# Altium footprint library battery (2).PCBLIB: 43 footprints (part 1 of 3)
Each footprint in its own frame and in the unit in brackets; x right, y up, seen from the top. Pads: shape width x height; smd on the part's side, far side on the other; paste and mask are expansions set on the pad; w line width, h text height; cw(c..) or ccw(c..) is an arc to the next point about the centre after c.
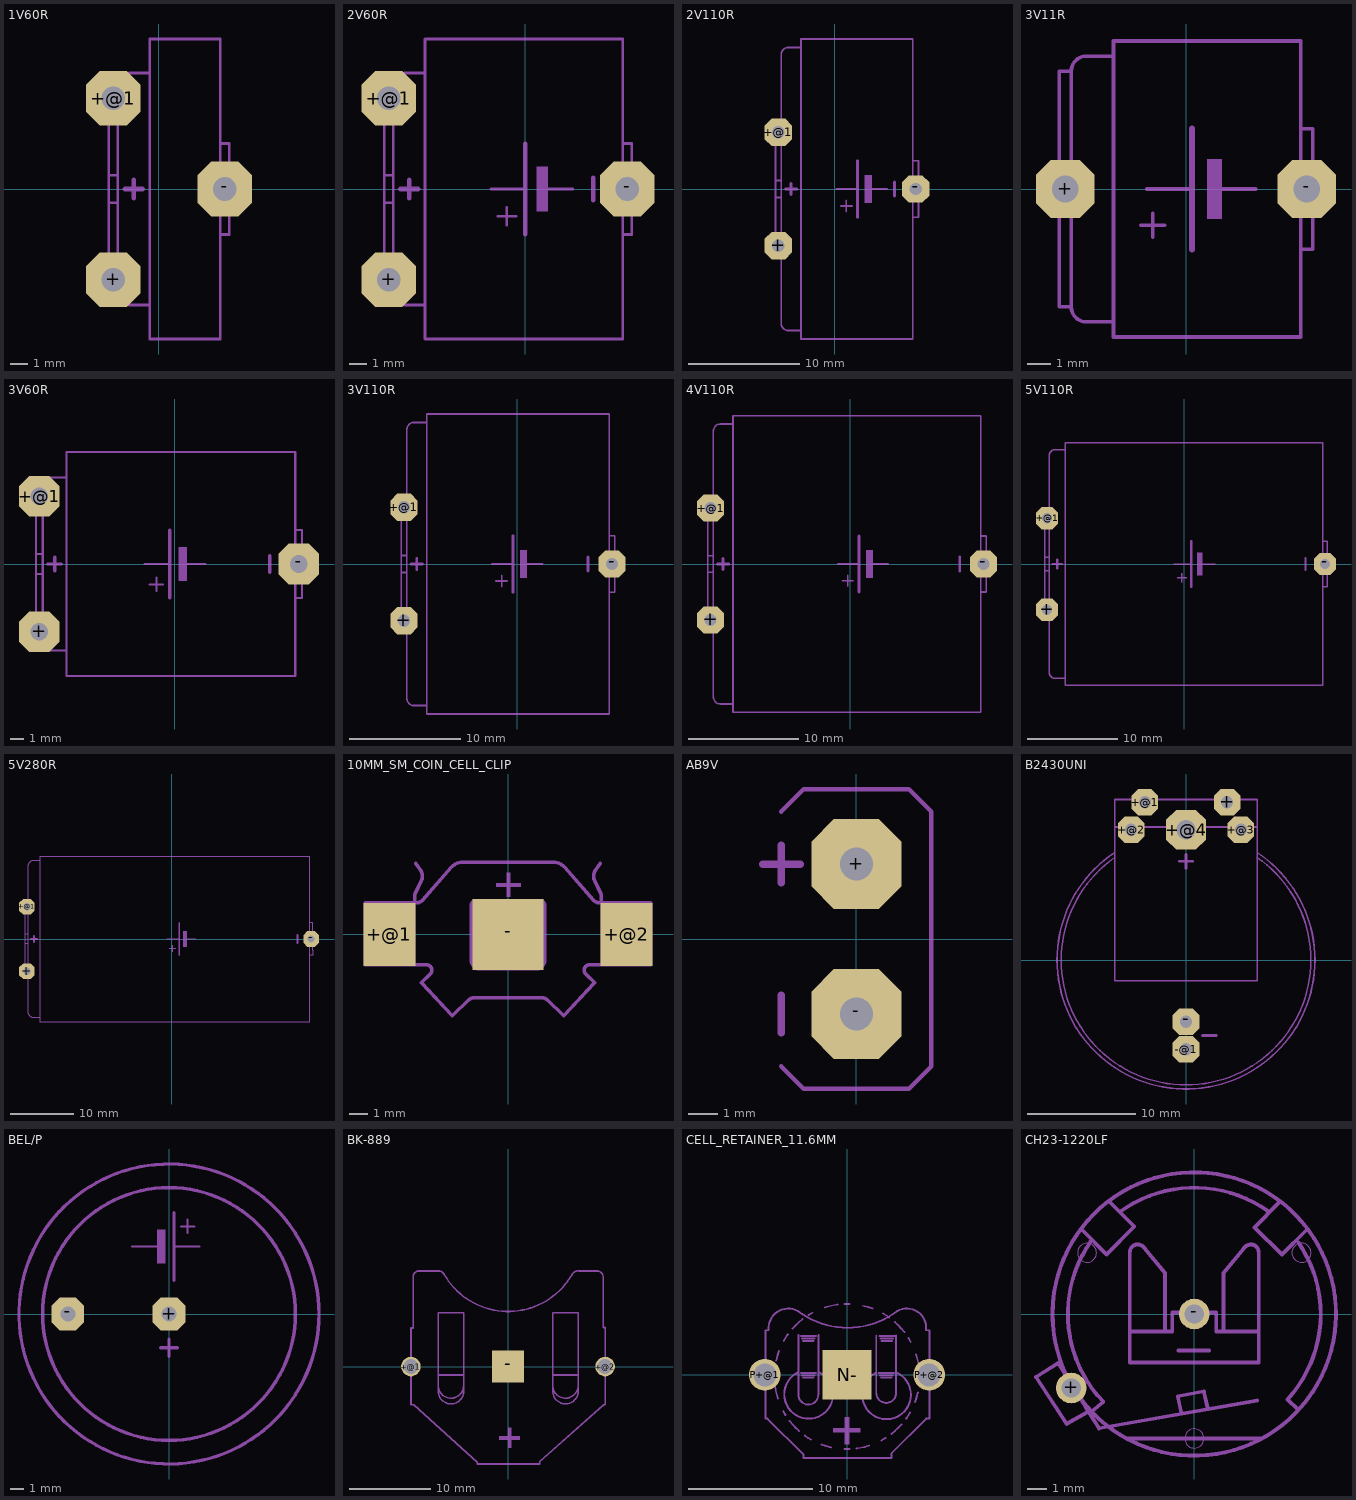
[diagram p0: the footprints below, top view; thin cyan lines are the x and y axes]

## 1V60R [mil]
pads (3):
  oct 120.06x120.06 hole 52: +(-100,-200) +@1(-100,200) -(145,0)
Mechanical 2:
  lines w6: -110,-130 -110,-30 ; -110,130 -110,30 ; -90,-130 -90,-30 ; -90,130 -90,30 ; -55,-255 -20,-255 ; -55,255 -20,255 ; 135,-70 135,-100 ; 135,70 135,100 ; 155,-70 155,-100 135,-100 ; 155,70 155,100 135,100 ; -110,-30 -90,-30 ; -110,-30 -110,30 ; -110,30 -90,30 ; -90,-30 -90,30 ; -20,-255 -20,255 ; -20,-255 -20,-330 135,-330 135,-100 ; -20,255 -20,330 135,330 135,100
  lines w10: -75,0 -35,0 ; -55,-20 -55,20
Mechanical 18:
  lines w6: -110,-130 -110,-230 -90,-230 ; -110,130 -110,230 -90,230 ; -90,-130 -90,-230 ; -90,130 -90,230 ; -55,-255 -65,-255 cw(c-65,-230) -90,-230 ; -55,255 -65,255 ccw(c-65,230) -90,230 ; 135,-70 135,-30 ; 135,70 135,30 ; 155,-70 155,-30 ; 155,70 155,30 ; 135,-30 155,-30 ; 135,-30 135,30 ; 135,30 155,30 ; 155,-30 155,30
  lines w10: 100,-25 100,25

## 2V60R [mil]
pads (3):
  oct 120.06x120.06 hole 52: +(-300,-200) +@1(-300,200) -(225,0)
Mechanical 2:
  rectangle: 25,-50 50,50
  lines w6: -310,-130 -310,-30 ; -310,130 -310,30 ; -290,-130 -290,-30 ; -290,130 -290,30 ; -255,-255 -220,-255 ; -255,255 -220,255 ; -75,0 0,0 ; -60,-60 -20,-60 ; -40,-80 -40,-40 ; 50,0 105,0 ; 215,-70 215,-100 ; 215,70 215,100 ; 235,-70 235,-100 215,-100 ; 235,70 235,100 215,100 ; -310,-30 -290,-30 ; -310,-30 -310,30 ; -310,30 -290,30 ; -290,-30 -290,30 ; -220,-255 -220,255 ; -220,-255 -220,-330 215,-330 215,-100 ; -220,255 -220,330 215,330 215,100
  lines w10: -275,0 -235,0 ; -255,-20 -255,20 ; 0,-100 0,0 0,100 ; 150,-25 150,25
Mechanical 18:
  lines w6: -310,-130 -310,-230 -290,-230 ; -310,130 -310,230 -290,230 ; -290,-130 -290,-230 ; -290,130 -290,230 ; -255,-255 -265,-255 cw(c-265,-230) -290,-230 ; -255,255 -265,255 ccw(c-265,230) -290,230 ; 215,-70 215,-30 ; 215,70 215,30 ; 235,-70 235,-30 ; 235,70 235,30 ; 215,-30 235,-30 ; 215,-30 215,30 ; 215,30 235,30 ; 235,-30 235,30

## 2V110R [mil]
pads (3):
  oct 96.82x96.82 hole 44: +(-200,-200) +@1(-200,200) -(285,0)
Mechanical 2:
  rectangle: 105,-50 130,50
  lines w6: -210,-135 -210,-30 ; -210,135 -210,30 ; -190,-265 -190,-475 ccw(c-165,-475) -165,-500 -120,-500 ; -190,-135 -190,-30 ; -190,135 -190,30 ; -190,265 -190,475 cw(c-165,475) -165,500 -120,500 ; 5,0 80,0 ; 20,-60 60,-60 ; 40,-80 40,-40 ; 130,0 185,0 ; 275,-70 275,-100 ; 275,70 275,100 ; 295,-70 295,-100 275,-100 ; 295,70 295,100 275,100 ; -210,-30 -190,-30 ; -210,-30 -210,30 ; -210,30 -190,30 ; -190,-30 -190,30 ; -120,-500 -120,500 ; -120,-500 -120,-530 275,-530 275,-100 ; -120,500 -120,530 275,530 275,100
  lines w10: -175,0 -135,0 ; -155,-20 -155,20 ; 80,-100 80,0 80,100 ; 210,-25 210,25
Mechanical 18:
  lines w6: -210,-135 -210,-230 -190,-230 ; -210,135 -210,230 -190,230 ; -190,-265 -190,-230 ; -190,-135 -190,-230 ; -190,135 -190,230 ; -190,265 -190,230 ; 275,-70 275,-30 ; 275,70 275,30 ; 295,-70 295,-30 ; 295,70 295,30 ; 275,-30 295,-30 ; 275,-30 275,30 ; 275,30 295,30 ; 295,-30 295,30

## 3V11R [mil]
pads (2):
  oct 96.82x96.82 hole 44: +(-200,0) -(200,0)
Mechanical 2:
  rectangle: 35,-50 60,50
  lines w6: -210,-65 -210,-195 -190,-195 ; -210,65 -210,195 -190,195 ; -190,-65 -190,-195 ; -190,65 -190,195 ; -75,-60 -35,-60 ; -65,0 10,0 ; -55,-80 -55,-40 ; 60,0 115,0 ; 190,-65 190,-100 ; 190,65 190,100 ; 210,-65 210,-100 190,-100 ; 210,65 210,100 190,100 ; -190,-195 ccw(c-165,-195) -165,-220 -120,-220 ; -190,195 cw(c-165,195) -165,220 -120,220 ; -120,-220 -120,220 ; -120,-220 -120,-245 190,-245 190,-100 ; -120,220 -120,245 190,245 190,100
  lines w10: 10,-100 10,0 10,100
Mechanical 18:
  lines w6: -210,-65 -210,-30 ; -210,65 -210,30 ; -190,-65 -190,-30 ; -190,65 -190,30 ; 190,-65 190,-30 ; 190,65 190,30 ; 210,-65 210,-30 ; 210,65 210,30 ; -210,-30 -190,-30 ; -210,-30 -210,30 ; -210,30 -190,30 ; -190,-30 -190,30 ; 190,-30 210,-30 ; 190,-30 190,30 ; 190,30 210,30 ; 210,-30 210,30

## 3V60R [mil]
pads (3):
  oct 120.06x120.06 hole 52: +(-400,-200) +@1(-400,200) -(365,0)
Mechanical 2:
  rectangle: 10,-50 35,50
  lines w6: -410,-130 -410,-30 ; -410,130 -410,30 ; -390,-130 -390,-30 ; -390,130 -390,30 ; -355,-255 -320,-255 ; -355,255 -320,255 ; -90,0 -15,0 ; -75,-60 -35,-60 ; -55,-80 -55,-40 ; 35,0 90,0 ; 355,-70 355,-100 ; 355,70 355,100 ; 375,-70 375,-100 355,-100 ; 375,70 375,100 355,100 ; -410,-30 -390,-30 ; -410,-30 -410,30 ; -410,30 -390,30 ; -390,-30 -390,30 ; -320,-255 -320,255 ; -320,-255 -320,-330 355,-330 355,-100 ; -320,255 -320,330 355,330 355,100
  lines w10: -375,0 -335,0 ; -355,-20 -355,20 ; -15,-100 -15,0 -15,100 ; 280,-25 280,25
Mechanical 18:
  lines w6: -410,-130 -410,-230 -390,-230 ; -410,130 -410,230 -390,230 ; -390,-130 -390,-230 ; -390,130 -390,230 ; -355,-255 -365,-255 cw(c-365,-230) -390,-230 ; -355,255 -365,255 ccw(c-365,230) -390,230 ; 355,-70 355,-30 ; 355,70 355,30 ; 375,-70 375,-30 ; 375,70 375,30 ; 355,-30 375,-30 ; 355,-30 355,30 ; 355,30 375,30 ; 375,-30 375,30

## 3V110R [mil]
pads (3):
  oct 96.82x96.82 hole 44: +(-400,-200) +@1(-400,200) -(335,0)
Mechanical 2:
  rectangle: 10,-50 35,50
  lines w6: -410,-135 -410,-30 ; -410,135 -410,30 ; -390,-265 -390,-475 ccw(c-365,-475) -365,-500 -320,-500 ; -390,-135 -390,-30 ; -390,135 -390,30 ; -390,265 -390,475 cw(c-365,475) -365,500 -320,500 ; -90,0 -15,0 ; -75,-60 -35,-60 ; -55,-80 -55,-40 ; 35,0 90,0 ; 325,-70 325,-100 ; 325,70 325,100 ; 345,-70 345,-100 325,-100 ; 345,70 345,100 325,100 ; -410,-30 -390,-30 ; -410,-30 -410,30 ; -410,30 -390,30 ; -390,-30 -390,30 ; -320,-500 -320,500 ; -320,-500 -320,-530 325,-530 325,-100 ; -320,500 -320,530 325,530 325,100
  lines w10: -375,0 -335,0 ; -355,-20 -355,20 ; -15,-100 -15,0 -15,100 ; 250,-25 250,25
Mechanical 18:
  lines w6: -410,-135 -410,-230 -390,-230 ; -410,135 -410,230 -390,230 ; -390,-265 -390,-230 ; -390,-135 -390,-230 ; -390,135 -390,230 ; -390,265 -390,230 ; 325,-70 325,-30 ; 325,70 325,30 ; 345,-70 345,-30 ; 345,70 345,30 ; 325,-30 345,-30 ; 325,-30 325,30 ; 325,30 345,30 ; 345,-30 345,30

## 4V110R [mil]
pads (3):
  oct 96.82x96.82 hole 44: +(-500,-200) +@1(-500,200) -(475,0)
Mechanical 2:
  rectangle: 55,-50 80,50
  lines w6: -510,-135 -510,-30 ; -510,135 -510,30 ; -490,-265 -490,-475 ccw(c-465,-475) -465,-500 -420,-500 ; -490,-135 -490,-30 ; -490,135 -490,30 ; -490,265 -490,475 cw(c-465,475) -465,500 -420,500 ; -45,0 30,0 ; -30,-60 10,-60 ; -10,-80 -10,-40 ; 80,0 135,0 ; 465,-70 465,-100 ; 465,70 465,100 ; 485,-70 485,-100 465,-100 ; 485,70 485,100 465,100 ; -510,-30 -490,-30 ; -510,-30 -510,30 ; -510,30 -490,30 ; -490,-30 -490,30 ; -420,-500 -420,500 ; -420,-500 -420,-530 465,-530 465,-100 ; -420,500 -420,530 465,530 465,100
  lines w10: -475,0 -435,0 ; -455,-20 -455,20 ; 30,-100 30,0 30,100 ; 390,-25 390,25
Mechanical 18:
  lines w6: -510,-135 -510,-230 -490,-230 ; -510,135 -510,230 -490,230 ; -490,-265 -490,-230 ; -490,-135 -490,-230 ; -490,135 -490,230 ; -490,265 -490,230 ; 465,-70 465,-30 ; 465,70 465,30 ; 485,-70 485,-30 ; 485,70 485,30 ; 465,-30 485,-30 ; 465,-30 465,30 ; 465,30 485,30 ; 485,-30 485,30

## 5V110R [mil]
pads (3):
  oct 96.82x96.82 hole 44: +(-600,-200) +@1(-600,200) -(615,0)
Mechanical 2:
  rectangle: 55,-50 80,50
  lines w6: -610,-135 -610,-30 ; -610,135 -610,30 ; -590,-265 -590,-475 ccw(c-565,-475) -565,-500 -520,-500 ; -590,-135 -590,-30 ; -590,135 -590,30 ; -590,265 -590,475 cw(c-565,475) -565,500 -520,500 ; -45,0 30,0 ; -30,-60 10,-60 ; -10,-80 -10,-40 ; 80,0 135,0 ; 605,-70 605,-100 ; 605,70 605,100 ; 625,-70 625,-100 605,-100 ; 625,70 625,100 605,100 ; -610,-30 -590,-30 ; -610,-30 -610,30 ; -610,30 -590,30 ; -590,-30 -590,30 ; -520,-500 -520,500 ; -520,-500 -520,-530 605,-530 605,-100 ; -520,500 -520,530 605,530 605,100
  lines w10: -575,0 -535,0 ; -555,-20 -555,20 ; 30,-100 30,0 30,100 ; 530,-25 530,25
Mechanical 18:
  lines w6: -610,-135 -610,-230 -590,-230 ; -610,135 -610,230 -590,230 ; -590,-265 -590,-230 ; -590,-135 -590,-230 ; -590,135 -590,230 ; -590,265 -590,230 ; 605,-70 605,-30 ; 605,70 605,30 ; 625,-70 625,-30 ; 625,70 625,30 ; 605,-30 625,-30 ; 605,-30 605,30 ; 605,30 625,30 ; 625,-30 625,30

## 5V280R [mil]
pads (3):
  oct 96.82x96.82 hole 44: +(-900,-200) +@1(-900,200) -(865,0)
Mechanical 2:
  rectangle: 70,-50 95,50
  lines w6: -910,-135 -910,-30 ; -910,135 -910,30 ; -890,-265 -890,-460 ccw(c-865,-460) -865,-485 -820,-485 ; -890,-135 -890,-30 ; -890,135 -890,30 ; -890,265 -890,460 cw(c-865,460) -865,485 -820,485 ; -30,0 45,0 ; -15,-60 25,-60 ; 5,-80 5,-40 ; 95,0 150,0 ; 855,-70 855,-100 ; 855,70 855,100 ; 875,-70 875,-100 855,-100 ; 875,70 875,100 855,100 ; -910,-30 -890,-30 ; -910,-30 -910,30 ; -910,30 -890,30 ; -890,-30 -890,30 ; -820,-485 -820,485 ; -820,-485 -820,-515 855,-515 855,-100 ; -820,485 -820,515 855,515 855,100
  lines w10: -875,0 -835,0 ; -855,-20 -855,20 ; 45,-100 45,0 45,100 ; 780,-25 780,25
Mechanical 18:
  lines w6: -910,-135 -910,-230 -890,-230 ; -910,135 -910,230 -890,230 ; -890,-265 -890,-230 ; -890,-135 -890,-230 ; -890,135 -890,230 ; -890,265 -890,230 ; 855,-70 855,-30 ; 855,70 855,30 ; 875,-70 875,-30 ; 875,70 875,30 ; 855,-30 875,-30 ; 855,-30 855,30 ; 855,30 875,30 ; 875,-30 875,30

## 10MM_SM_COIN_CELL_CLIP [mil]
pads (3):
  rect 114.17x137.8 smd: +@1(-259.84,0) +@2(259.84,0)
  rect 155.91x155.91 smd: -(0,0)
Mechanical 2:
  rectangle: -3.39,81.35 5.65,135.59
  rectangle: -25.99,103.95 28.25,112.99
  lines w7.87: -202.26,91.52 -189.83,117.51 ccw(c-210.71,127.49) -192.09,141.24 -202.26,155.93 ; -187.57,74.57 -124.29,146.89 cw(c-99.35,125.07) -98.3,158.19 1.13,158.19 ; -178.53,-66.67 cw(c-178.53,-78.47) -171.75,-88.13 -189.83,-106.21 -122.03,-178.53 -85.87,-143.5 cw(c-74.71,-155.02) -74.57,-138.98 74.57,-138.98 cw(c74.71,-155.02) 85.87,-143.5 122.03,-178.53 189.83,-106.21 171.75,-88.13 cw(c178.53,-78.47) 178.53,-66.67 ; -1.13,158.19 98.3,158.19 cw(c99.35,125.07) 124.29,146.89 187.57,74.57 ; 202.26,91.52 189.83,117.51 cw(c210.71,127.49) 192.09,141.24 202.26,155.93
Mechanical 18:
  circle w7.87: c-259.88,2.26 r32.79
  circle w7.87: c259.88,2.26 r32.79
  lines w7.87: -206.78,-63.28 -206.78,66.67 ; -204.52,71.19 -204.52,84.74 cw(c-193.22,84.74) -202.26,91.52 ; -187.57,74.57 cw(c-201.12,88.02) -201.13,68.93 -312.99,68.93 -312.99,-66.67 -178.53,-66.67 ; -59.89,64.41 -59.89,-27.12 ccw(c-41.81,-27.12) -41.81,-45.2 41.81,-45.2 ccw(c41.81,-27.12) 59.89,-27.12 59.89,64.41 ; -59.89,65.54 ccw(c-67.8,65.53) -67.8,73.44 -71.19,73.44 ccw(c-71.19,64.41) -80.22,64.41 -80.22,-56.5 ccw(c-61.02,-56.5) -61.02,-75.7 61.02,-75.7 ccw(c61.02,-56.5) 80.22,-56.5 80.22,64.41 ccw(c71.19,64.41) 71.19,73.44 67.8,73.44 ccw(c67.8,65.53) 59.89,65.54 ; 178.53,-66.67 312.99,-66.67 312.99,68.93 201.13,68.93 cw(c201.12,88.02) 187.57,74.57 ; 202.26,91.52 cw(c193.22,84.74) 204.52,84.74 204.52,71.19 ; 206.78,-63.28 206.78,66.67

## AB9V [mil]
pads (2):
  oct 120.06x120.06 hole 44: +(0,100) -(0,-100)
Mechanical 2:
  lines w6: -100,-170 -70,-200 70,-200 100,-170 100,170 70,200 -70,200 -100,170
  lines w10: -125,100 -75,100 ; -100,-125 -100,-75 ; -100,75 -100,125
Mechanical 18:
  circle w6: c0,100 r50
  circle w6: c0,-100 r50

## B2430UNI [mil]
pads (7):
  oct 96.82x96.82 hole 44: +(150,575) +@1(-150,575) +@2(-200,475) +@3(200,475) -(0,-225) -@1(0,-325)
  oct 145.24x145.24 hole 71: +@4(0,475)
Mechanical 2:
  lines w6: -261.98,372.01 ccw(c0,0) -455,0 ccw(c0,0) 455,0 ccw(c-0.01,0) 258.44,374.48 ; -260.71,391.06 ccw(c0,0) -470,0 ccw(c0,0) 470,0 ccw(c0,0) 259.38,391.95 ; -210,585 -260,585 -260,-75 260,-75 260,585 205,585 ; -140,485 -85,485 ; -90,585 90,585 ; 85,485 140,485
  lines w10: -25,360 25,360 ; 0,335 0,385 ; 60,-275 110,-275
Mechanical 18:
  lines w6: -260,485 -140,485 ; -210,585 -90,585 ; -85,485 85,485 ; 90,585 205,585 ; 140,485 260,485

## BEL/P [mil]
pads (2):
  oct 96.82x96.82 hole 44: +(0,0) -(-300,0)
Mechanical 2:
  circle w10: c0,0 r445
  circle w10: c0,0 r375
  rectangle: -35,150 -10,250
  lines w6: -110,200 -35,200 ; 15,200 90,200 ; 35,260 75,260 ; 55,240 55,280
  lines w10: -25,-100 25,-100 ; 0,-125 0,-75 ; 15,100 15,200 15,300

## BK-889 [mil]
pads (3):
  round 94.49 hole 72.83: +@1(-469.49,0) +@2(469.49,0)
  rect 155.91x155.91 smd: -(0,0)
Mechanical 2:
  rectangle: -42.39,-353.97 57.23,-334.89
  rectangle: 0,-392.12 16.96,-294.62
  lines w8: -468.42,-184.4 -455.71,-184.4 -148.37,-462.07 -148.37,-470.54 152.61,-470.54 152.61,-459.95 462.07,-184.4 470.54,-184.4 ; -468.42,186.52 -457.83,186.52 -457.83,434.51 cw(c-430.27,434.51) -430.27,462.07 -334.89,462.07 cw(c-334.89,432.85) -309.46,447.23 ccw(c0.6,622.56) 309.46,445.11 cw(c339.2,428.03) 343.37,462.07 430.27,462.07 cw(c430.27,432.39) 459.95,432.39 459.95,188.64 470.54,188.64 ; -337.01,-91.14 -337.01,-116.58 ccw(c-275.56,-118.7) -214.08,-118.7 -214.08,-93.26 ; -337.01,-40.27 -216.2,-40.27 ; 216.2,-91.14 216.2,-116.58 ccw(c277.65,-118.7) 339.13,-118.7 339.13,-93.26 ; 216.2,-40.27 337.01,-40.27 ; -337.01,-89.02 ccw(c-275.56,-91.14) -214.08,-91.14 -214.08,260.71 -337.01,260.71 -337.01,-89.02 ; 216.2,-89.02 ccw(c277.65,-91.14) 339.13,-91.14 339.13,260.71 216.2,260.71 216.2,-89.02
Mechanical 18:
  lines w8: -470.54,33.91 -495.98,33.91 -495.98,-29.67 -468.42,-29.67 ; -468.42,-184.4 -468.42,-29.67 ; -468.42,186.52 -468.42,-29.67 ; 470.54,-184.4 470.54,-29.67 ; 470.54,188.64 470.54,31.79 ; 470.54,-29.67 470.54,31.79 ; 470.54,-29.67 500.22,-29.67 500.22,31.79 470.54,31.79

## CELL_RETAINER_11.6MM [mm]
pads (3):
  rect 3.96x3.96 smd: N-(0,0)
  round 2.54 hole 1.85: P+@1(-6.605,0) P+@2(6.605,0)
Mechanical 2:
  rectangle: -0.188,-5.596 0.188,-3.386
  region: 1.082,-4.655 1.082,-4.279 -1.129,-4.279 -1.129,-4.655
  lines w0.15: -6.536,-1.599 -6.536,-3.527 -6.395,-3.527 -3.48,-6.442 ; -6.536,1.646 -6.536,3.574 -6.301,3.574 cw(c-4.711,3.722) -3.95,5.126 ccw(c0.047,10.352) 4.044,5.126 cw(c4.803,3.765) 6.348,3.574 6.63,3.574 6.63,1.599 ; -5.126,-2.916 -4.938,-3.245 ; -5.079,2.727 cw(c-1.895,1.066) -4.75,3.245 ; -4.609,-3.715 ccw(c0.138,0) -3.856,-4.514 ; -4.373,3.715 cw(c0.14,-0.28) -3.574,4.467 ; -3.95,0.188 ccw(c-3.08,-1.568) -2.21,0.188 ; -3.903,3.198 -3.903,-1.599 ccw(c-3.104,-1.599) -2.304,-1.599 -2.304,3.198 ; -3.715,0.141 -2.492,0.141 ; -3.715,3.104 -2.492,3.104 ; -3.621,-0.047 -2.586,-0.047 ; -3.621,2.916 -2.586,2.916 ; -3.527,-0.235 -2.68,-0.235 ; -3.527,2.727 -2.68,2.727 ; -3.48,-6.678 3.574,-6.678 3.574,-6.301 6.348,-3.527 6.63,-3.527 6.63,-1.552 ; -3.386,-4.891 ccw(c-1.207,-2.036) -2.868,-5.22 ; -3.104,4.797 -2.774,4.985 ; -2.069,-5.596 ccw(c0.144,0.449) -1.27,-5.831 ; -1.787,5.408 cw(c0.014,-0.12) -0.752,5.643 ; -0.188,-5.972 0.188,-5.972 ; -0.188,5.69 0.188,5.69 ; 0.752,-5.925 ccw(c-0.013,-0.162) 1.787,-5.69 ; 1.27,5.549 cw(c-0.142,-0.731) 2.069,5.314 ; 2.304,0.141 ccw(c3.174,-1.615) 4.044,0.141 ; 2.351,3.151 2.351,-1.458 ccw(c3.151,-1.458) 3.95,-1.458 3.95,3.151 ; 2.539,0.141 3.762,0.141 ; 2.586,3.104 3.809,3.104 ; 2.633,-0.047 3.668,-0.047 ; 2.68,2.916 3.715,2.916 ; 2.727,-0.235 3.574,-0.235 ; 2.774,-5.267 3.104,-5.079 ; 2.774,2.727 3.621,2.727 ; 2.868,4.938 cw(c1.208,1.754) 3.386,4.609 ; 3.574,-4.75 ccw(c-0.14,-0.002) 4.373,-3.997 ; 3.856,4.232 cw(c-0.138,-0.282) 4.609,3.433 ; 4.75,-3.527 ccw(c1.897,-1.348) 5.079,-3.01 ; 4.938,2.963 5.126,2.633
Mechanical 18:
  lines w0.15: -6.63,-0.752 -7.289,-0.752 -7.289,0.799 -6.583,0.799 ; -6.536,-3.527 -6.536,3.574 ; -5.831,-0.329 -5.831,0.047 ; -5.784,-0.894 ccw(c-0.021,-0.127) -5.549,-1.928 ; -5.69,1.129 cw(c0.592,-0.285) -5.455,1.928 ; -3.95,0.188 ccw(c-3.075,-1.567) -1.223,-2.21 ; -3.48,-6.678 -3.48,-6.442 ; 1.317,-2.21 ccw(c3.178,-1.612) 4.044,0.141 ; 5.455,-2.21 ccw(c-0.59,0.003) 5.69,-1.411 ; 5.549,1.646 cw(c0.021,-0.155) 5.784,0.611 ; 5.831,-0.329 5.831,0.047 ; 6.63,-3.527 6.63,3.574 ; 6.678,-0.752 7.43,-0.752 7.43,0.799 6.678,0.799

## CH23-1220LF [mm]
pads (2):
  round 1.6 hole 1: +(-6.425,-3.863) -(0,0)
Mechanical 2:
  lines w0.2: -7,-2.5 -8.265,-3.291 -6.658,-5.74 -5.587,-5.127 ; -6.925,-2.612 cw(c-0.003,0.002) -5.35,-5.113 ; -6.15,-2.4 cw(c0.009,0.003) -5.412,3.787 ; -5.837,4.375 -4.575,3.113 -3.137,4.575 -4.437,5.875 ; -5.662,-4.875 -4.975,-5.97 3.291,-4.515 ; -5.325,-5.062 -4.75,-4.587 ; -3.863,5.35 cw(c0.008,-0.014) 3.825,5.388 ; -3.5,-6.5 3.5,-6.5 ; -3.291,-0.918 -1.531,-0.918 ; -1.148,-0.918 -1.531,-0.918 ; -0.842,-1.913 0.765,-1.913 ; -0.675,-5.137 -0.863,-4.3 0.5,-4.038 0.688,-4.887 ; 1.148,-0.918 1.531,-0.918 ; 3.291,-0.918 1.531,-0.918 ; 4.425,5.825 3.137,4.513 4.575,3.1 5.875,4.4 ; 5.412,-4.988 4.863,-4.463 ccw(c0.019,-0.005) 5.425,3.75 ; -1.531,-0.918 -1.531,2.143 -2.602,3.444 ccw(c-2.95,3.214) -3.367,3.214 -3.367,-2.526 3.367,-2.526 3.367,3.214 ccw(c2.95,3.214) 2.602,3.444 1.531,2.143 1.531,-0.918
Mechanical 16:
  circle w0.01: c5.6,3.2 r0.5
  circle w0.01: c-5.6,3.2 r0.5
  circle w0.01: c0,-6.5 r0.5
Mechanical 18:
  circle w0.2: c0,0 r7.4
  lines w0.2: -7.041,-2.679 -4.975,-5.97 ; -5.412,3.787 ccw(c0.018,0.003) -4.75,-4.587 ; -1.148,-0.918 -1.148,0.076 1.148,0.076 1.148,-0.918